# EAGLE library part ML20 (library 1A-meinLib)
HARTING
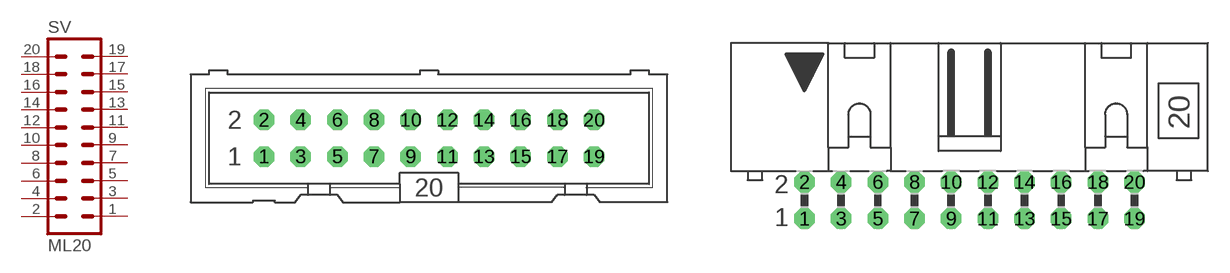
[diagram p40: symbol with the pads of ML20; footprints ML20, ML20L]

Designator prefix SV

## ML20  [ML20]
1  1  pas
2  2  pas
3  3  pas
4  4  pas
5  5  pas
6  6  pas
7  7  pas
8  8  pas
9  9  pas
10  10  pas
11  11  pas
12  12  pas
13  13  pas
14  14  pas
15  15  pas
16  16  pas
17  17  pas
18  18  pas
19  19  pas
20  20  pas

## ML20L  [ML20L]
Pads as for ML20

## ML203M  [3M_20]
Pads as for ML20

## ML203ML  [3M_20L]
Pads as for ML20

## Footprint ML20 (pad centres in mm)
HARTING
drill 0.914 octagon: 1 -11.43,-1.27; 2 -11.43,1.27; 3 -8.89,-1.27; 4 -8.89,1.27; 5 -6.35,-1.27; 6 -6.35,1.27; 7 -3.81,-1.27; 8 -3.81,1.27; 9 -1.27,-1.27; 10 -1.27,1.27; 11 1.27,-1.27; 12 1.27,1.27; 13 3.81,-1.27; 14 3.81,1.27; 15 6.35,-1.27; 16 6.35,1.27; 17 8.89,-1.27; 18 8.89,1.27; 19 11.43,-1.27; 20 11.43,1.27

## Footprint ML20L (pad centres in mm)
HARTING
drill 0.914 octagon: 1 -11.43,-1.27; 2 -11.43,1.27; 3 -8.89,-1.27; 4 -8.89,1.27; 5 -6.35,-1.27; 6 -6.35,1.27; 7 -3.81,-1.27; 8 -3.81,1.27; 9 -1.27,-1.27; 10 -1.27,1.27; 11 1.27,-1.27; 12 1.27,1.27; 13 3.81,-1.27; 14 3.81,1.27; 15 6.35,-1.27; 16 6.35,1.27; 17 8.89,-1.27; 18 8.89,1.27; 19 11.43,-1.27; 20 11.43,1.27

## Footprint 3M_20 (pad centres in mm)
3M
drill 0.813 square: 1 -11.43,-1.27; 2 -11.43,1.27; 3 -8.89,-1.27; 4 -8.89,1.27; 5 -6.35,-1.27; 6 -6.35,1.27; 7 -3.81,-1.27; 8 -3.81,1.27; 9 -1.27,-1.27; 10 -1.27,1.27; 11 1.27,-1.27; 12 1.27,1.27; 13 3.81,-1.27; 14 3.81,1.27; 15 6.35,-1.27; 16 6.35,1.27; 17 8.89,-1.27; 18 8.89,1.27; 19 11.43,-1.27; 20 11.43,1.27

## Footprint 3M_20L (pad centres in mm)
3M
drill 0.813 square: 1 -11.43,-5.08; 2 -11.43,-2.54; 3 -8.89,-5.08; 4 -8.89,-2.54; 5 -6.35,-5.08; 6 -6.35,-2.54; 7 -3.81,-5.08; 8 -3.81,-2.54; 9 -1.27,-5.08; 10 -1.27,-2.54; 11 1.27,-5.08; 12 1.27,-2.54; 13 3.81,-5.08; 14 3.81,-2.54; 15 6.35,-5.08; 16 6.35,-2.54; 17 8.89,-5.08; 18 8.89,-2.54; 19 11.43,-5.08; 20 11.43,-2.54
hole 2.54 at -17.348,-3.277
hole 2.54 at 17.348,-3.277